# EAGLE library part XC9536XL-CS48 (library XC9500XLneu)
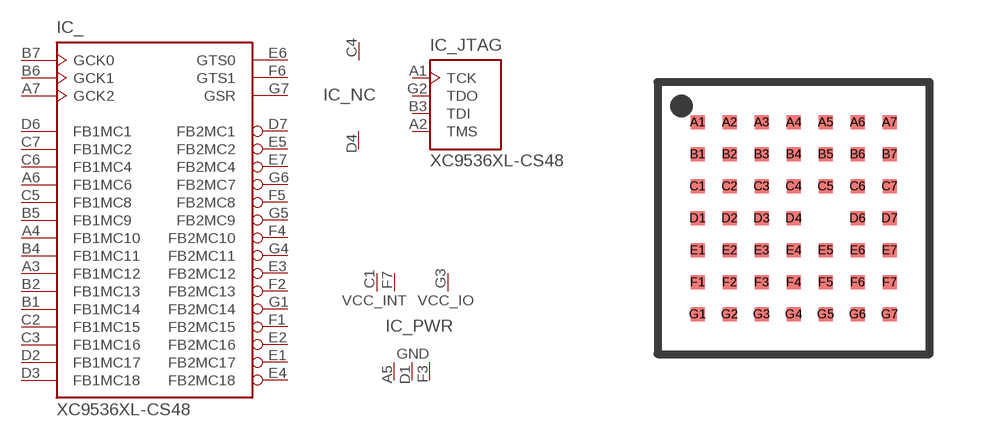
[diagram p2: symbol with the pads of CS48; footprint CS48]

Designator prefix IC; gates _=XC9536XL-CS48 _NC=XC9536XL-CS48_NC _PWR=XC9536XL_PWR _JTAG=JTAG

## XC9536XL-CS48  [CS48]
A1  _JTAG:TCK  in
A2  _JTAG:TMS  in
A3  _:FB1MC12
A4  _:FB1MC10
A5  _PWR:GND  pwr
A6  _:FB1MC6
A7  _:GCK2  in
B1  _:FB1MC14
B2  _:FB1MC13
B3  _JTAG:TDI  in
B4  _:FB1MC11
B5  _:FB1MC9
B6  _:GCK1  in
B7  _:GCK0  in
C1  _PWR:VCC_INT  pwr
C2  _:FB1MC15
C3  _:FB1MC16
C4  _NC:NC  pwr
C5  _:FB1MC8
C6  _:FB1MC4
C7  _:FB1MC2
D1  _PWR:GND  pwr
D2  _:FB1MC17
D3  _:FB1MC18
D4  _NC:NC  pwr
D6  _:FB1MC1
D7  _:FB2MC1
E1  _:FB2MC17
E2  _:FB2MC16
E3  _:FB2MC12
E4  _:FB2MC18
E5  _:FB2MC2
E6  _:GTS0  in
E7  _:FB2MC4
F1  _:FB2MC15
F2  _:FB2MC13
F3  _PWR:GND  pwr
F4  _:FB2MC10
F5  _:FB2MC8
F6  _:GTS1  in
F7  _PWR:VCC_INT  pwr
G1  _:FB2MC14
G2  _JTAG:TDO  out
G3  _PWR:VCC_IO  pwr
G4  _:FB2MC11
G5  _:FB2MC9
G6  _:FB2MC7
G7  _:GSR  in

## Footprint CS48 (pad centres in mm)
smd 0.35 x 0.35: A1 -2.4,2.4; A2 -1.6,2.4; A3 -0.8,2.4; A4 0,2.4; A5 0.8,2.4; A6 1.6,2.4; A7 2.4,2.4; B1 -2.4,1.6; B2 -1.6,1.6; B3 -0.8,1.6; B4 0,1.6; B5 0.8,1.6; B6 1.6,1.6; B7 2.4,1.6; C1 -2.4,0.8; C2 -1.6,0.8; C3 -0.8,0.8; C4 0,0.8; C5 0.8,0.8; C6 1.6,0.8; C7 2.4,0.8; D1 -2.4,0; D2 -1.6,0; D3 -0.8,0; D4 0,0; D6 1.6,0; D7 2.4,0; E1 -2.4,-0.8; E2 -1.6,-0.8; E3 -0.8,-0.8; E4 0,-0.8; E5 0.8,-0.8; E6 1.6,-0.8; E7 2.4,-0.8; F1 -2.4,-1.6; F2 -1.6,-1.6; F3 -0.8,-1.6; F4 0,-1.6; F5 0.8,-1.6; F6 1.6,-1.6; F7 2.4,-1.6; G1 -2.4,-2.4; G2 -1.6,-2.4; G3 -0.8,-2.4; G4 0,-2.4; G5 0.8,-2.4; G6 1.6,-2.4; G7 2.4,-2.4